# EAGLE library part MPU9150 (library BaseApp)
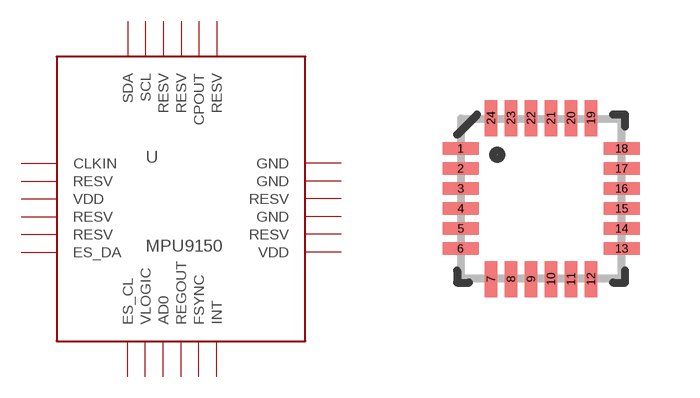
[diagram p88: symbol with the pads of LGA-24; footprint LGA-24]

Designator prefix -

## MPU9150  [LGA-24]
1  CLKIN
2  RESV
3  VDD
4  RESV
5  RESV
6  ES_DA
7  ES_CL
8  VLOGIC
9  AD0
10  REGOUT
11  FSYNC
12  INT
13  VDD
14  RESV
15  GND
16  RESV
17  GND
18  GND
19  RESV
20  CPOUT
21  RESV
22  RESV
23  SCL
24  SDA

## Footprint LGA-24 (pad centres in mm)
smd 0.9 x 0.31: 1 -2.013,1.25; 2 -2.013,0.75; 3 -2.013,0.25; 4 -2.013,-0.25; 5 -2.013,-0.75; 6 -2.013,-1.25; 13 2.013,-1.25; 14 2.013,-0.75; 15 2.013,-0.25; 16 2.013,0.25; 17 2.013,0.75; 18 2.013,1.25
smd 0.31 x 0.9: 7 -1.25,-2.013; 8 -0.75,-2.013; 9 -0.25,-2.013; 10 0.25,-2.013; 11 0.75,-2.013; 12 1.25,-2.013; 19 1.25,2.013; 20 0.75,2.013; 21 0.25,2.013; 22 -0.25,2.013; 23 -0.75,2.013; 24 -1.25,2.013